# EAGLE library part GEARMOTOR_POLOLU2822_HEADER (library arm)
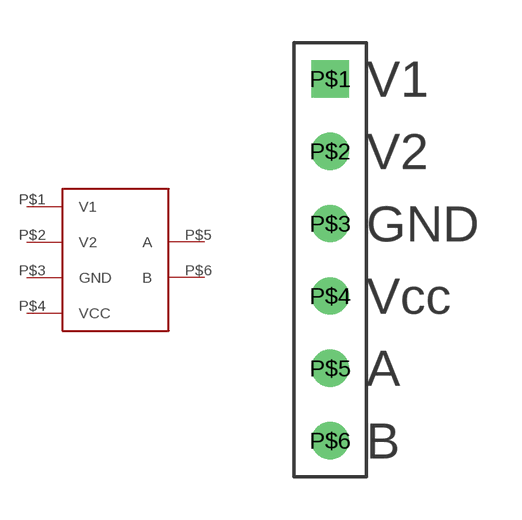
[diagram p0: symbol with the pads of GEARMOTOR_POLOLU2822_HEADER; footprint GEARMOTOR_POLOLU2822_HEADER]

Designator prefix -

## GEARMOTOR_POLOLU2822_HEADER  [GEARMOTOR_POLOLU2822_HEADER]
P$1  V1
P$2  V2
P$3  GND
P$4  VCC
P$5  A
P$6  B

## Footprint GEARMOTOR_POLOLU2822_HEADER (pad centres in mm)
drill 0.8 square: P$1 0,0
drill 0.8: P$2 0,-2.54; P$3 0,-5.08; P$4 0,-7.62; P$5 0,-10.16; P$6 0,-12.7